# Altium schematic symbol library MOC3061SR2M.SchLib: 1 symbol
Pins are listed as number, name and electrical type; pins without a type are passive.

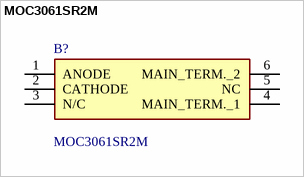
[diagram p0: symbol MOC3061SR2M]

## MOC3061SR2M
designator B?
Triac & SCR Output Optocouplers 6Pin600V Optocoupler Zero Cross Triac Dr; Manufacturer_Name: onsemi; Geometry.Height: 5.08mm; Mouser Part Number: 512-MOC3061SR2M; Mouser Price/Stock: https://www.mouser.co.uk/ProductDetail/onsemi-Fairchild/MOC3061SR2M?qs=QsyUFYHC2%2FbVF%2F%252BX5tJ1cA%3D%3D; Manufacturer_Part_Number: MOC3061SR2M; Datasheet Link: http://www.onsemi.com/pub/Collateral/MOC3163M-D.pdf
footprint SOT254P916X508-6N
pins: 1 ANODE, 2 CATHODE, 3 N/C, 4 MAIN_TERM._1, 5 NC, 6 MAIN_TERM._2